# EAGLE library part CON-USB-B (library GadgetFactory_v1)
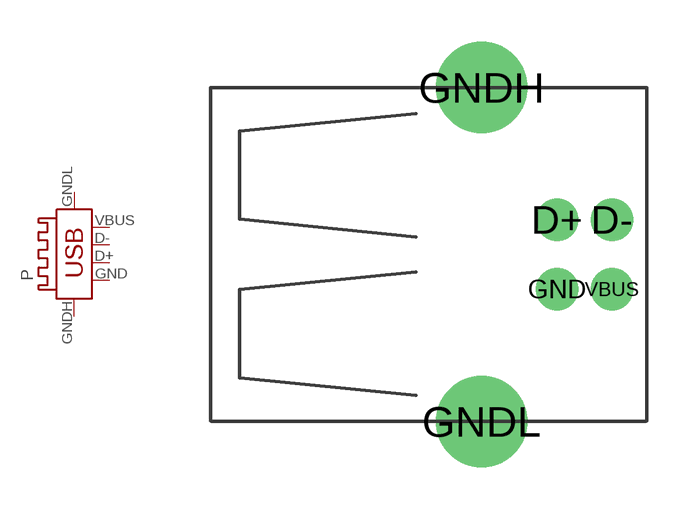
[diagram p41: symbol with the pads of USB-B-H; footprint USB-B-H]

Designator prefix P

## CON-USB-B  [USB-B-H]
D+  D+
D-  D-
GND  GND
GNDH  GNDH
GNDL  GNDL
VBUS  VBUS

## Footprint USB-B-H (pad centres in mm)
drill 1.016: D+ 5.08,1.25; D- 7.061,1.25; GND 5.08,-1.25; VBUS 7.061,-1.25
drill 2.286: GNDH 2.362,6.02; GNDL 2.362,-6.02